# Altium footprint library ZX62-B-5PA11.PcbLib: 1 footprints
Each footprint in its own frame and in the unit in brackets; x right, y up, seen from the top. Pads: shape width x height; smd on the part's side, far side on the other; paste and mask are expansions set on the pad; w line width, h text height; cw(c..) or ccw(c..) is an arc to the next point about the centre after c.
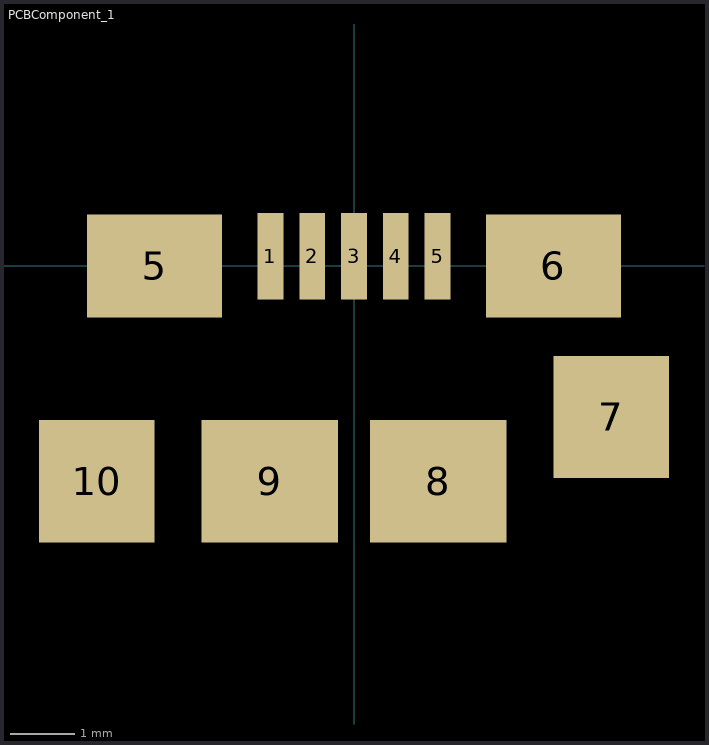
[diagram p0: the footprint, top view; thin cyan lines are the x and y axes]

## PCBComponent_1 [mm]
pads (11):
  rect 0.4x1.35 smd: 1(-1.3,0.15) 2(-0.65,0.15) 3(0,0.15) 4(0.65,0.15) 5(1.3,0.15)
  rect 2.1x1.6 smd: 5(-3.1,0) 6(3.1,0)
  rect 1.8x1.9 smd: 7(4,-2.35) 10(-4,-3.35)
  rect 2.125x1.9 smd: 8(1.312,-3.35) 9(-1.312,-3.35)
3D body: height 2.38, standoff -0.57, extent -4.036,-5.092 4.037,0.508